# EAGLE library part RPI-HAT (library RPi-HAT)
Raspberry PI Hat - Header, mounting screws and outline
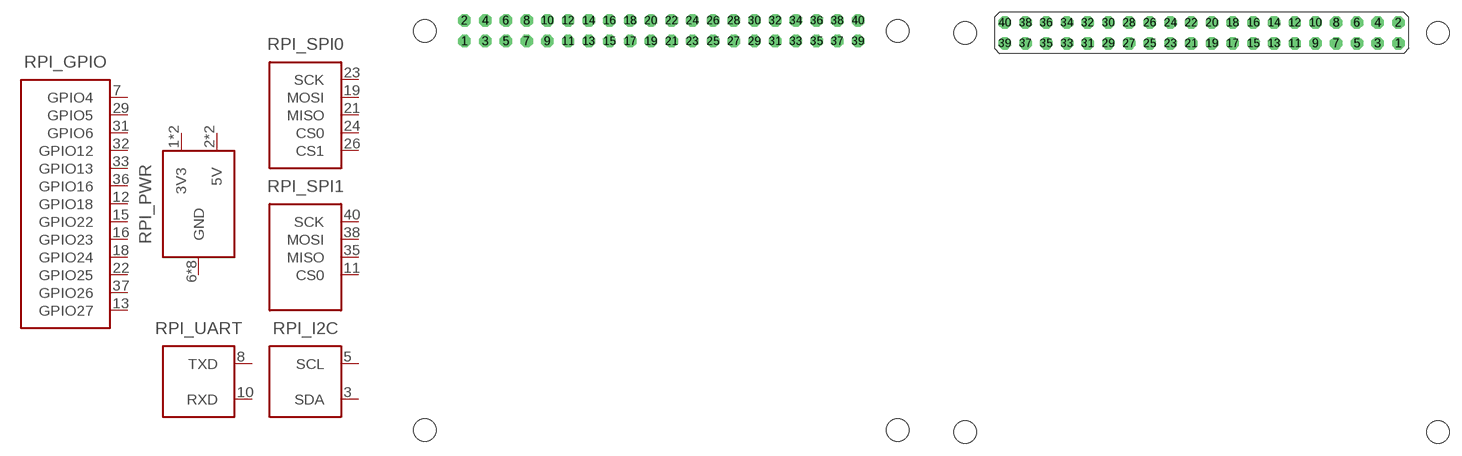
[diagram p0: symbol with the pads of RPI-HAT; footprints RPI-HAT, RPI-4-HAT]

Designator prefix RPI_; gates PWR=RPI-PWR SPI0=RPI-SPI0 I2C=RPI-I2C GPIO=RPI-GPIO SPI1=RPI-SPI1 UART=RPI-UART

## RPI-HAT  [RPI-HAT]
1  PWR:3V3  pwr
2  PWR:5V  pwr
3  I2C:SDA  oc
4  PWR:5V  pwr
5  I2C:SCL  oc
6  PWR:GND  pwr
7  GPIO:GPIO4
8  UART:TXD  out
9  PWR:GND  pwr
10  UART:RXD  in
11  SPI1:CS0  out
12  GPIO:GPIO18
13  GPIO:GPIO27
14  PWR:GND  pwr
15  GPIO:GPIO22
16  GPIO:GPIO23
17  PWR:3V3  pwr
18  GPIO:GPIO24
19  SPI0:MOSI  out
20  PWR:GND  pwr
21  SPI0:MISO  in
22  GPIO:GPIO25
23  SPI0:SCK  out
24  SPI0:CS0  out
25  PWR:GND  pwr
26  SPI0:CS1  out
29  GPIO:GPIO5
30  PWR:GND  pwr
31  GPIO:GPIO6
32  GPIO:GPIO12
33  GPIO:GPIO13
34  PWR:GND  pwr
35  SPI1:MISO  in
36  GPIO:GPIO16
37  GPIO:GPIO26
38  SPI1:MOSI  out
39  PWR:GND  pwr
40  SPI1:SCK  out

## RPI-HAT_4 (HEIGHT: 18.67mm; MF: Samtec; MPN: ESQ-120-44-L-D)  [RPI-4-HAT]
Pads as for RPI-HAT

## RPI-HAT_4_DR234 (HEIGHT: 18.67mm; MF: Samtec; MPN: ESQ-120-44-L-D)  [RPI-4-HAT_DR234]
Pads as for RPI-HAT

## RPI-HAT_4_DR24 (HEIGHT: 18.67mm; MF: Samtec; MPN: ESQ-120-44-LD)  [RPI-4-HAT_DR24]
Pads as for RPI-HAT

## RPI-HAT_4_DR00 (HEIGHT: 18.67mm; MF: Samtec; MPN: ESQ-120-44-L-D)  [RPI-4-HAT_DR00]
Pads as for RPI-HAT

## Footprint RPI-HAT (pad centres in mm)
drill 1.016 octagon: 1 8.37,51.23; 2 8.37,53.77; 3 10.91,51.23; 4 10.91,53.77; 5 13.45,51.23; 6 13.45,53.77; 7 15.99,51.23; 8 15.99,53.77; 9 18.53,51.23; 10 18.53,53.77; 11 21.07,51.23; 12 21.07,53.77; 13 23.61,51.23; 14 23.61,53.77; 15 26.15,51.23; 16 26.15,53.77; 17 28.69,51.23; 18 28.69,53.77; 19 31.23,51.23; 20 31.23,53.77; 21 33.77,51.23; 22 33.77,53.77; 23 36.31,51.23; 24 36.31,53.77; 25 38.85,51.23; 26 38.85,53.77; 27 41.39,51.23; 28 41.39,53.77; 29 43.93,51.23; 30 43.93,53.77; 31 46.47,51.23; 32 46.47,53.77; 33 49.01,51.23; 34 49.01,53.77; 35 51.55,51.23; 36 51.55,53.77; 37 54.09,51.23; 38 54.09,53.77; 39 56.63,51.23; 40 56.63,53.77
hole 2.75 at 3.5,3.5
hole 2.75 at 3.5,52.5
hole 2.75 at 61.5,52.5
hole 2.75 at 61.5,3.5

## Footprint RPI-4-HAT (pad centres in mm)
drill 1.016 octagon: 1 24.13,-1.27; 2 24.13,1.27; 3 21.59,-1.27; 4 21.59,1.27; 5 19.05,-1.27; 6 19.05,1.27; 7 16.51,-1.27; 8 16.51,1.27; 9 13.97,-1.27; 10 13.97,1.27; 11 11.43,-1.27; 12 11.43,1.27; 13 8.89,-1.27; 14 8.89,1.27; 15 6.35,-1.27; 16 6.35,1.27; 17 3.81,-1.27; 18 3.81,1.27; 19 1.27,-1.27; 20 1.27,1.27; 21 -1.27,-1.27; 22 -1.27,1.27; 23 -3.81,-1.27; 24 -3.81,1.27; 25 -6.35,-1.27; 26 -6.35,1.27; 27 -8.89,-1.27; 28 -8.89,1.27; 29 -11.43,-1.27; 30 -11.43,1.27; 31 -13.97,-1.27; 32 -13.97,1.27; 33 -16.51,-1.27; 34 -16.51,1.27; 35 -19.05,-1.27; 36 -19.05,1.27; 37 -21.59,-1.27; 38 -21.59,1.27; 39 -24.13,-1.27; 40 -24.13,1.27
hole 2.75 at 29,-49
hole 2.75 at 29,0
hole 2.75 at -29,0
hole 2.75 at -29,-49

## Footprint RPI-4-HAT_DR234 (pad centres in mm)
drill 1.016 octagon: 1 24.13,-1.27; 2 24.13,1.27; 3 21.59,-1.27; 4 21.59,1.27; 5 19.05,-1.27; 6 19.05,1.27; 7 16.51,-1.27; 8 16.51,1.27; 9 13.97,-1.27; 10 13.97,1.27; 11 11.43,-1.27; 12 11.43,1.27; 13 8.89,-1.27; 14 8.89,1.27; 15 6.35,-1.27; 16 6.35,1.27; 17 3.81,-1.27; 18 3.81,1.27; 19 1.27,-1.27; 20 1.27,1.27; 21 -1.27,-1.27; 22 -1.27,1.27; 23 -3.81,-1.27; 24 -3.81,1.27; 25 -6.35,-1.27; 26 -6.35,1.27; 27 -8.89,-1.27; 28 -8.89,1.27; 29 -11.43,-1.27; 30 -11.43,1.27; 31 -13.97,-1.27; 32 -13.97,1.27; 33 -16.51,-1.27; 34 -16.51,1.27; 35 -19.05,-1.27; 36 -19.05,1.27; 37 -21.59,-1.27; 38 -21.59,1.27; 39 -24.13,-1.27; 40 -24.13,1.27
hole 2.75 at 29,-49
hole 2.75 at 29,0
hole 2.75 at -29,0

## Footprint RPI-4-HAT_DR24 (pad centres in mm)
drill 1.016 octagon: 1 24.13,-1.27; 2 24.13,1.27; 3 21.59,-1.27; 4 21.59,1.27; 5 19.05,-1.27; 6 19.05,1.27; 7 16.51,-1.27; 8 16.51,1.27; 9 13.97,-1.27; 10 13.97,1.27; 11 11.43,-1.27; 12 11.43,1.27; 13 8.89,-1.27; 14 8.89,1.27; 15 6.35,-1.27; 16 6.35,1.27; 17 3.81,-1.27; 18 3.81,1.27; 19 1.27,-1.27; 20 1.27,1.27; 21 -1.27,-1.27; 22 -1.27,1.27; 23 -3.81,-1.27; 24 -3.81,1.27; 25 -6.35,-1.27; 26 -6.35,1.27; 27 -8.89,-1.27; 28 -8.89,1.27; 29 -11.43,-1.27; 30 -11.43,1.27; 31 -13.97,-1.27; 32 -13.97,1.27; 33 -16.51,-1.27; 34 -16.51,1.27; 35 -19.05,-1.27; 36 -19.05,1.27; 37 -21.59,-1.27; 38 -21.59,1.27; 39 -24.13,-1.27; 40 -24.13,1.27
hole 2.75 at 29,0
hole 2.75 at -29,0

## Footprint RPI-4-HAT_DR00 (pad centres in mm)
drill 1.016 octagon: 1 24.13,-1.27; 2 24.13,1.27; 3 21.59,-1.27; 4 21.59,1.27; 5 19.05,-1.27; 6 19.05,1.27; 7 16.51,-1.27; 8 16.51,1.27; 9 13.97,-1.27; 10 13.97,1.27; 11 11.43,-1.27; 12 11.43,1.27; 13 8.89,-1.27; 14 8.89,1.27; 15 6.35,-1.27; 16 6.35,1.27; 17 3.81,-1.27; 18 3.81,1.27; 19 1.27,-1.27; 20 1.27,1.27; 21 -1.27,-1.27; 22 -1.27,1.27; 23 -3.81,-1.27; 24 -3.81,1.27; 25 -6.35,-1.27; 26 -6.35,1.27; 27 -8.89,-1.27; 28 -8.89,1.27; 29 -11.43,-1.27; 30 -11.43,1.27; 31 -13.97,-1.27; 32 -13.97,1.27; 33 -16.51,-1.27; 34 -16.51,1.27; 35 -19.05,-1.27; 36 -19.05,1.27; 37 -21.59,-1.27; 38 -21.59,1.27; 39 -24.13,-1.27; 40 -24.13,1.27